# EAGLE library part SN74LVC2G07 (library pimoroni)
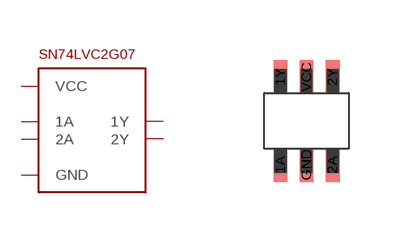
[diagram p60: symbol with the pads of SN74LVC2G07-DCK; footprint SN74LVC2G07-DCK]

Designator prefix -

## SN74LVC2G07  [SN74LVC2G07-DCK]
1A  1A  in
1Y  1Y  out
2A  2A  in
2Y  2Y  out
GND  GND  pwr
VCC  VCC  pwr

## Footprint SN74LVC2G07-DCK (pad centres in mm)
smd 0.35 x 0.85: 1A -0.65,-1.1; 1Y -0.65,1.1; 2A 0.65,-1.1; 2Y 0.65,1.1; GND 0,-1.1; VCC 0,1.1